# Altium schematic symbol library sm_inductor.SchLib: 16 symbols
Pins are listed as number, name and electrical type; pins without a type are passive.

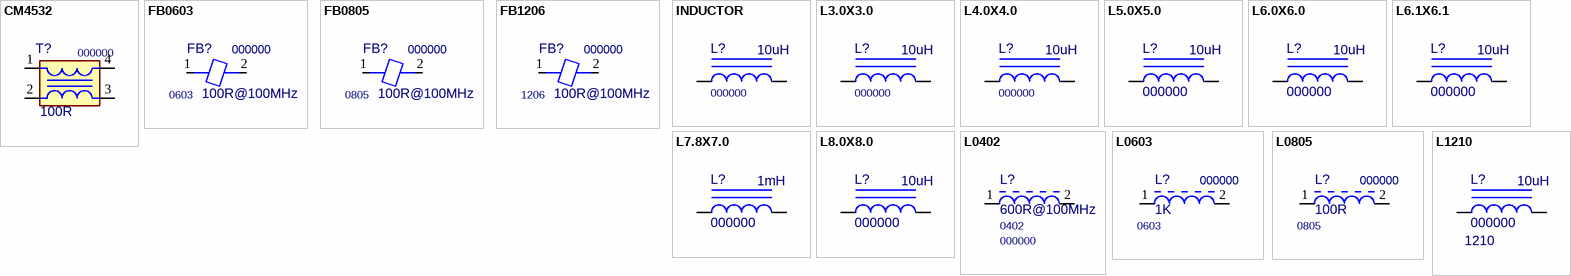
[diagram p0: symbols CM4532 to L1210]

## CM4532
designator T?, comment 000000  value 100R
SMD - Common Mode Filter; ExtraInfo: *; PN: 000000; Package: *; MF PN: *; MF: *
footprint CM4532 (Chip Inductor, 2-Leads, Body 2.0x1.3mm, IPC High Density)
pins: 1, 2, 3, 4

## FB0603
designator FB?, comment 000000  value 100R@100MHz  Package: 0603
SMD Chip Ferrite Bead - 0603; PN: 000000; ExtraInfo: *; MF: *; MF PN: *
footprint L0603M (Chip Inductor, 2-Leads, Body 1.6x0.8mm, IPC Medium Density)
pins: 1, 2

## FB0805
designator FB?, comment 000000  value 100R@100MHz  Package: 0805
SMD Chip Ferrite Bead - 0805; PN: 000000; ExtraInfo: *; MF: *; MF PN: *
footprint L0805M (Chip Inductor, 2-Leads, Body 2.0x1.3mm, IPC Medium Density)
pins: 1, 2

## FB1206
designator FB?, comment 000000  value 100R@100MHz  Package: 1206
SMD Chip Ferrite Bead - 1206; PN: 000000; ExtraInfo: *; MF: *; MF PN: *
footprint L1206M (Chip Inductor 2-Leads, Body 3.2x1.6mm, IPC Medium Density)
pins: 1, 2

## INDUCTOR
designator L?, comment 000000  value 10uH
Magnetic-Core Inductor; PN: 000000; Package: *; ExtraInfo: *; MF PN: *
simulation model INDUCTOR (Inductor)
signal-integrity model Inductor Iron
footprint L3.0MMX3.0MM (Precision Wire Wound Inductor, 2-Leads, Body 3.0x3.0mm, IPC Low Density)
pins: 1, 2

## L3.0X3.0
designator L?, comment 000000  value 10uH
SMT Power Inductor 3.0X3.0mm; PN: 000000; Package: SMT; ExtraInfo: *; MF PN: *; MF: *
simulation model INDUCTOR (Inductor)
signal-integrity model Inductor Iron
footprint L3.0MMX3.0MM (Precision Wire Wound Inductor, 2-Leads, Body 3.0x3.0mm, IPC Low Density)
pins: 1, 2

## L4.0X4.0
designator L?, comment 000000  value 10uH
SMT Power Inductor 4.0X4.0mm; PN: 000000; Package: SMD 4.0x4.0mm; MF: *; ExtraInfo: *
simulation model INDUCTOR (Inductor)
signal-integrity model Inductor Iron
footprint L4.0MMX4.0MM (Precision Wire Wound Inductor, 2-Leads, Body 4.0x4.0mm, IPC Medium Density)
pins: 1, 2

## L5.0X5.0
designator L?, comment 000000  value 10uH
SMT Power Inductor 5.0X5.0mm; PN: 000000; Package: SMD 5.0x5.0mm; MF: *; ExtraInfo: *; MF PN: *
simulation model INDUCTOR (Inductor)
signal-integrity model Inductor Iron
footprint L5.0MMX5.0MM (Precision Wire Wound Inductor, 2-Leads, Body 4.0x4.0mm, IPC Medium Density)
pins: 1, 2

## L6.0X6.0
designator L?, comment 000000  value 10uH
SMT Power Inductor 6.0X6.0mm; PN: 000000; Package: SMT 6.1x6.1mm; ExtraInfo: *; MF: *; MF PN: *
simulation model INDUCTOR (Inductor)
signal-integrity model Inductor Iron
footprint L6.0MMX6.0MM (Wire Wound Inductor, 2-Leads, Body 6.0x6.0mm)
pins: 1, 2

## L6.1X6.1
designator L?, comment 000000  value 10uH
SMT Power Inductor 6.1X6.1mm; PN: 000000; Package: SMT 6.1x6.1mm; ExtraInfo: *; MF: *; MF PN: *
simulation model INDUCTOR (Inductor)
signal-integrity model Inductor Iron
footprint L6.1MMX6.1MM (Wire Wound Inductor, 2-Leads, Body 3.1x3.1mm)
pins: 1, 2

## L7.8X7.0
designator L?, comment 000000  value 1mH
SMT Power Inductor 7.8X7.0mm; PN: 000000; Package: 7.8x7.0mm; ExtraInfo: *; MF: *; MF PN: *
simulation model INDUCTOR (Inductor)
signal-integrity model Inductor Iron
footprint L7.8MMX7.0MM (Wire Wound Inductor, 2-Leads, Body 7.8x7.0mm)
pins: 1, 2

## L8.0X8.0
designator L?, comment 000000  value 10uH
SMT Power Inductor 8.0X8.0mm; PN: 000000; Package: 8.0x8.0mm; ExtraInfo: *; MF: *; MF PN: *
simulation model INDUCTOR (Inductor)
signal-integrity model Inductor Iron
footprint L8.0MMX8.0MM (Wire Wound Inductor, 2-Leads, Body 6.0x6.0mm)
pins: 1, 2

## L0402
designator L?, comment 000000  value 600R@100MHz  Package: 0402
SMD Chip Inductor - 0402; MF: Taiyo Yuden; MF PN: BK1005HM601-T; PN: 000000; ExtraInfo: *
footprint L0402 (Chip Inductor, 0402, High Density)
pins: 1, 2

## L0603
designator L?, comment 000000  value 1K  Package: 0603
SMD Chip Inductor - 0603; PN: 000000; ExtraInfo: *; MF PN: *; MF: *
footprint L0603H (Chip Inductor 0603)
footprint L0603M (Chip Inductor, 2-Leads, Body 1.6x0.8mm, IPC Medium Density)
pins: 1, 2

## L0805
designator L?, comment 000000  value 100R  Package: 0805
SMD Chip Inductor - 0805; PN: 000000; ExtraInfo: *; MF: *; MF PN: *
footprint L0805 (Chip Inductor, 2-Leads, Body 2.0x1.3mm, IPC High Density)
footprint L0805L (Chip Inductor, 2-Leads, Body 2.0x1.3mm, IPC Low Density)
footprint L0805M (Chip Inductor, 2-Leads, Body 2.0x1.3mm, IPC Medium Density)
pins: 1, 2

## L1210
designator L?, comment 000000  value 10uH  Package: 1210
SMD Wire Wound Inductor -  1210 (3225 metric); MF: *; MF PN: *; PN: 000000; ExtraInfo: *
simulation model INDUCTOR (Inductor)
signal-integrity model Inductor Iron
footprint L1210L (Wire Wound Inductor, 2-Leads, Body 3.2x2.5mm, Low Density)
footprint L1210M (Wire Wound Inductor, 2-Leads, Body 3.2x2.5mm, Medium Density)
pins: 1, 2